# Altium schematic symbol library Memory.SchLib: 1 symbol
Pins are listed as number, name and electrical type; pins without a type are passive.

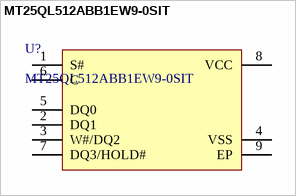
[diagram p0: symbol MT25QL512ABB1EW9-0SIT]

## MT25QL512ABB1EW9-0SIT
designator U?
NOR Flash SPI FLASH NOR SLC 128MX4 WPDFN; Supplier 1: Mouser; Supplier Part Number 1: 340-283908-TRAY
footprint MT25QL512ABB1EW9-0SIT (NOR Flash SPI FLASH NOR SLC 128MX4 WPDFN)
pins: 1 S#, 2 DQ1, 3 W#/DQ2, 4 VSS, 5 DQ0, 6 C, 7 DQ3/HOLD#, 8 VCC, 9 EP